# Altium schematic symbol library MSP_LM35.SchLib: 13 symbols
Pins are listed as number, name and electrical type; pins without a type are passive.

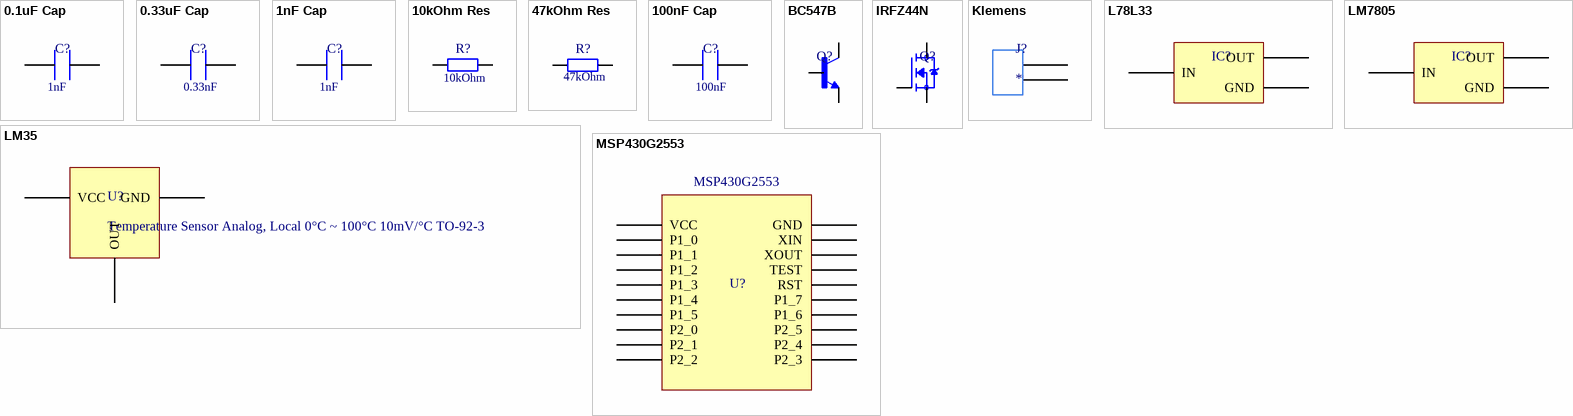
[diagram p0: symbols 0.1uF Cap to MSP430G2553]

## 0.1uF Cap
designator C?  (value not drawn)
footprint Capacitor
footprint Capacitor
pins: 0, 1
text: 1nF

## 0.33uF Cap
designator C?  (value not drawn)
footprint Capacitor
footprint Capacitor
pins: 0, 1
text: 0.33nF

## 1nF Cap
designator C?  (value not drawn)
footprint Capacitor
footprint Capacitor
pins: 0, 1
text: 1nF

## 10kOhm Res
designator R?  (value not drawn)
footprint Res
pins: 1, 2
text: 10kOhm

## 47kOhm Res
designator R?  (value not drawn)
footprint Res
pins: 1, 2
text: 47kOhm

## 100nF Cap
designator C?  (value not drawn)
footprint Capacitor
footprint Capacitor
pins: 0, 1
text: 100nF

## BC547B
designator Q?, comment Trans GP BJT NPN 45V 0.1A 500mW Automotive 3-Pin TO-92 Ammo  (value not drawn)
Manufacturer: ON Semiconductor / Fairchild; Manufacturer Part Number: BC547B; Collector Emitter Saturation Voltage: 300mV; Max Collector Current: 100mA; Transition Frequency: 300MHz; Collector-emitter Voltage-Max: 600mV; hFE Min: 200; Collector Base Voltage (VCBO): 50V; Emitter Base Voltage (VEBO): 6V; Gain Bandwidth Product: 100MHz; Voltage: 40V; Supplier 1: Farnell; RoHS: Yes; Description: Trans GP BJT NPN 45V 0.1A 500mW Automotive 3-Pin TO-92 Ammo; Category: BJTs; Stock 1: 265589; Pricing 1: 5=0,442, 10=0,327, 100=0,188, 500=0,127, 1000=0,078, 5000=0,0764 (EUR); Mount: Through Hole; Case/Package: TO-92-3; Number of Pins: 3; Weight: 0.007055oz; Contact Plating: Copper,Tin,Silver; Min Operating Temperature: -65°C; Max Operating Temperature: 150°C; Packaging: Bulk; Polarity: NPN; Max Power Dissipation: 500mW; Collector Emitter Voltage (VCEO): 45V; Voltage Rating (DC): 45V; Current Rating: 100mA; Collector Emitter Breakdown Voltage: 45V; Series: -; Package Quantity: 5000; Max Frequency: 300MHz; Max Breakdown Voltage: 45V; Length: 4.58mm; Width: 3.86mm; Height: 4.58mm; RoHS Compliant: Yes; Lead Free: Lead Free; Reach SVHC Compliant: No; ComponentLink1URL: https://datasheet.ciiva.com/17011/bc547-17011404.pdf?src-supplier=Future+Electronics; ComponentLink1Description: https://datasheet.ciiva.com/17011/bc547-17011404.pdf?src-supplier=Future+Electronics; ComponentLink2URL: https://datasheet.ciiva.com/985/bc546-547-548rev5-985523.pdf?src-supplier=Digi-Key; ComponentLink2Description: https://datasheet.ciiva.com/985/bc546-547-548rev5-985523.pdf?src-supplier=Digi-Key; ComponentLink3URL: https://datasheet.ciiva.com/972/bc546-972262.pdf?src-supplier=Digi-Key; ComponentLink3Description: https://datasheet.ciiva.com/972/bc546-972262.pdf?src-supplier=Digi-Key; ComponentLink4URL: https://datasheet.ciiva.com/1195/1868820-1195464.pdf?src-supplier=Element14; ComponentLink4Description: https://datasheet.ciiva.com/1195/1868820-1195464.pdf?src-supplier=Element14; ComponentLink5URL: https://datasheet.ciiva.com/11197/bc550-11197769.pdf?src-supplier=Avnet; ComponentLink5Description: https://datasheet.ciiva.com/11197/bc550-11197769.pdf?src-supplier=Avnet; Supplier Part Number 1: 1017673
footprint BC547
pins: 1 C, 2 B, 3 E

## IRFZ44N
designator Q?, comment MOSFET, Power; N-Ch; VDSS 55V; RDS(ON) 17.5 Milliohms; ID 49A; TO-220AB; PD 94W; -55deg  (value not drawn)
Manufacturer: International Rectifier; Manufacturer Part Number: IRFZ44N; Gate to Source Voltage (Vgs): 20V; Turn-Off Delay Time: 85ns; Turn-On Delay Time: 19ns; Rise Time: 185ns; Fall Time: 165ns; Supplier 1: Rs; RoHS: No; Description: MOSFET, Power; N-Ch; VDSS 55V; RDS(ON) 17.5 Milliohms; ID 49A; TO-220AB; PD 94W; -55deg; Mount: Through Hole; Number of Pins: 3; Min Operating Temperature: -55°C; Max Operating Temperature: 175°C; Continuous Drain Current (ID): 49A; RoHS Compliant: No; Supplier Part Number 1: 3713894
footprint IRFZ44N
pins: 1 G, 2 D, 3 S

## Klemens
designator J?
footprint Klemens
pins: 1, 2

## L78L33
designator IC?, comment L78L Series 100 mA 3.3 V Positive Voltage Regulator Through Hole - TO-92  (value not drawn)
Manufacturer: STMicroelectronics; Manufacturer Part Number: L78L33ACZ; Number of Outputs: 1; Output Voltage: 3.3V; Quiescent Current: 6mA; Max Input Voltage: 30V; Output Current: 100mA; Output Type: Fixed; Min Input Voltage: 5.3V; Dropout Voltage: 1.7V; Accuracy: 4%; Power Supply Rejection Ratio (PSRR): 49dB; Supplier 1: Mouser; RoHS: Yes; Description: L78L Series 100 mA 3.3 V Positive Voltage Regulator Through Hole - TO-92; Category: Voltage Regulators - Linear; Stock 1: 19573; Pricing 1: 1=0,54, 10=0,401, 50=0,401, 100=0,271, 1000=0,168, 10000=0,142 (USD); Mount: Through Hole; Case/Package: TO-92; Number of Pins: 3; Min Operating Temperature: 0°C; Max Operating Temperature: 125°C; Packaging: Bulk; Package Quantity: 2500; Polarity: Positive; Series: -; Max Output Current: 100mA; Number of Regulators: 1; Min Output Voltage: 3.3V; Nominal Output Voltage: 3.3V; Output Configuration: Positive; Max Supply Current: 6mA; Length: 4.95mm; Width: 3.94mm; Height: 4.95mm; RoHS Compliant: Yes; Lead Free: Lead Free; Reach SVHC Compliant: No; ComponentLink1URL: https://datasheet.ciiva.com/2043/cd00000446-2043681.pdf?src-supplier=Digi-Key; ComponentLink1Description: https://datasheet.ciiva.com/2043/cd00000446-2043681.pdf?src-supplier=Digi-Key; ComponentLink2URL: https://datasheet.ciiva.com/1511/1868798-1511961.pdf?src-supplier=Element14; ComponentLink2Description: https://datasheet.ciiva.com/1511/1868798-1511961.pdf?src-supplier=Element14; ComponentLink3URL: https://datasheet.ciiva.com/16425/cd00000446-16425913.pdf?src-supplier=Future+Electronics; ComponentLink3Description: https://datasheet.ciiva.com/16425/cd00000446-16425913.pdf?src-supplier=Future+Electronics; ComponentLink4URL: https://datasheet.ciiva.com/4882/cd00000446-4882938.pdf?src-supplier=Mouser; ComponentLink4Description: https://datasheet.ciiva.com/4882/cd00000446-4882938.pdf?src-supplier=Mouser; Supplier Part Number 1: 511-L78L33ACZ
footprint L78L33
pins: 1 OUT, 2 GND, 3 IN

## LM35
designator U?, comment Temperature Sensor Analog, Local 0°C ~ 100°C 10mV/°C TO-92-3
Manufacturer: TI National Semiconductor; Manufacturer Part Number: LM35DZ/NOPB; Min Supply Voltage: 4V; Max Supply Voltage: 30V; Quiescent Current: 56uA; Output Type: Voltage,Analog Voltage,Analog; Supplier 1: Digi-Key; RoHS: Yes; Description: Temperature Sensor Analog, Local 0°C ~ 100°C 10mV/°C TO-92-3; Category: Integrated Circuits (ICs); Pricing 1: 1=2,52, 5=2,382, 10=2,042, 25=1,6336, 50=1,4976, 100=1,3615, 500=1,1913, 1000=1,05515, 5000=0,98707 (USD); Mount: Through Hole; Case/Package: TO-92; Number of Pins: 3; Min Operating Temperature: -40°C; Max Operating Temperature: 110°C; Packaging: Bulk; Series: -; Interface: Analog; Output: ANALOG; Length: 5.2mm; Width: 4.19mm; Height: 5.2mm; Lead Free: Lead Free; RoHS Compliant: Yes; Reach SVHC Compliant: No; Supplier Part Number 1: LM35DZ/NOPB-ND
footprint LM35
pins: 1 VCC, 2 OUT, 3 GND

## LM7805
designator IC?, comment LM78XX Series 5 V Fixed Output 1 A 3-Terminal LDO Voltage Regulator - TO-220  (value not drawn)
Manufacturer: ON Semiconductor / Fairchild; Manufacturer Part Number: LM7805CT; Quiescent Current: 8mA; Output Current: 1A; Output Voltage: 5V; Dropout Voltage: 2V; Max Input Voltage: 35V; Number of Outputs: 1; Polarity: Positive; Min Input Voltage: 10V; Accuracy: 4%; Max Output Current: 2.2A; Max Output Voltage: 5.2V; Supplier 1: Avnet; RoHS: Yes; Description: LM78XX Series 5 V Fixed Output 1 A 3-Terminal LDO Voltage Regulator - TO-220; Category: Voltage Regulators - Linear; Stock 1: 120242; Pricing 1: 207=1,4208, 210=1,3824, 420=1,344, 1100=1,3056, 2100=1,2672, 11000=1,2288, 21000=1,1904 (USD); Mount: Through Hole; Case/Package: TO-220; Number of Pins: 3; Weight: 1.214g; Min Operating Temperature: -40°C; Max Operating Temperature: 125°C; Packaging: Rail/Tube; Output Type: Fixed; Series: -; Number of Regulators: 1; Package Quantity: 50; Min Output Voltage: 5V; Current Rating: 1A; Nominal Output Voltage: 5V; Length: 10.67mm; Width: 4.83mm; Height: 9.4mm; RoHS Compliant: Yes; Lead Free: Lead Free; Reach SVHC Compliant: No; ComponentLink1URL: https://datasheet.ciiva.com/19456/786138-19456361.pdf?src-supplier=Jameco; ComponentLink1Description: https://datasheet.ciiva.com/19456/786138-19456361.pdf?src-supplier=Jameco; ComponentLink2URL: https://datasheet.ciiva.com/1512/1855686-1512105.pdf?src-supplier=Element14; ComponentLink2Description: https://datasheet.ciiva.com/1512/1855686-1512105.pdf?src-supplier=Element14; ComponentLink3URL: https://datasheet.ciiva.com/1512/1855686-1512106.pdf?src-supplier=Element14; ComponentLink3Description: https://datasheet.ciiva.com/1512/1855686-1512106.pdf?src-supplier=Element14; ComponentLink4URL: https://datasheet.ciiva.com/1511/1855686-1511835.pdf?src-supplier=Element14; ComponentLink4Description: https://datasheet.ciiva.com/1511/1855686-1511835.pdf?src-supplier=Element14; ComponentLink5URL: https://datasheet.ciiva.com/8239/lm7812-8239478.pdf?src-supplier=Avnet; ComponentLink5Description: https://datasheet.ciiva.com/8239/lm7812-8239478.pdf?src-supplier=Avnet; ComponentLink6URL: https://datasheet.ciiva.com/17332/lm7805-17332792.pdf?src-supplier=Future+Electronics; ComponentLink6Description: https://datasheet.ciiva.com/17332/lm7805-17332792.pdf?src-supplier=Future+Electronics; ComponentLink7URL: https://datasheet.ciiva.com/2039/lm7805-2039365.pdf?src-supplier=Digi-Key; ComponentLink7Description: https://datasheet.ciiva.com/2039/lm7805-2039365.pdf?src-supplier=Digi-Key; ComponentLink8URL: https://datasheet.ciiva.com/48694/001253095-da-01-en-ic-reg-ldo-5v-1a-lm7805ct-to-220-3-fsc-48694790.pdf?src-supplier=Conrad; ComponentLink8Description: https://datasheet.ciiva.com/48694/001253095-da-01-en-ic-reg-ldo-5v-1a-lm7805ct-to-220-3-fsc-48694790.pdf?src-supplier=Conrad; Supplier Part Number 1: LM7805CT
footprint LM7805
pins: 1 IN, 2 GND, 3 OUT

## MSP430G2553
designator U?, comment 16 MHz MCU with 16KB Flash, 512B SRAM, comparator, UART/SPI/I2C, timer 20-PDIP -40 to 85  (value not drawn)
Manufacturer: Texas Instruments; Manufacturer Part Number: MSP430G2553IN20; Core Architecture: MSP430; Interface: I2C,SPI,IrDA,UART,USART,SCI,LIN; Number of I/Os: 16; Oscillator Type: Internal; Peripherals: Brown-out Detect/Reset,POR,PWM,WDT,DMA; Data Bus Width: 16b; Frequency: 16MHz; Number of A/D Converters: 8; Max Supply Voltage: 3.6V; Min Supply Voltage: 1.8V; Number of Timers/Counters: 2; Watchdog Timer: Yes; Number of GPIO: 24; Number of UART Channels: 1; Supplier 1: Mouser; RoHS: Yes; Description: 16 MHz MCU with 16KB Flash, 512B SRAM, comparator, UART/SPI/I2C, timer 20-PDIP -40 to 85; Category: Microcontrollers; Stock 1: 886; Pricing 1: 1=3,45, 10=3,1, 50=3,1, 100=2,54, 1000=2,4, 10000=2,4 (USD); Case/Package: N; Number of Pins: 20; Min Operating Temperature: -40°C; Max Operating Temperature: 85°C; Series: MSP430G2xx; Packaging: Rail/Tube; Package Quantity: 20; Memory Type: FLASH; Memory Size: 16KB; RAM Size: 512B; Number of ADC Channels: 8; Number of Programmable I/O: 16; Max Frequency: 16MHz; Number of SPI Channels: 2; Number of I2C Channels: 1; Length: 24.33mm; Width: 6.35mm; Height: 5.08mm; Radiation Hardening: No; Lead Free: Lead Free; Reach SVHC Compliant: No; RoHS Compliant: Yes; ComponentLink1URL: https://datasheet.ciiva.com/28657/1695238-28657971.pdf?src-supplier=Element14; ComponentLink1Description: https://datasheet.ciiva.com/28657/1695238-28657971.pdf?src-supplier=Element14; Supplier Part Number 1: 595-MSP430G2553IN20
footprint MSP430G2553
pins: 0 VCC, 1 P1_0, 2 P1_1, 3 P1_2, 4 P1_3, 5 P1_4, 6 P1_5, 7 P2_0, 8 P2_1, 9 P2_2, 10 P2_3, 11 P2_4, 12 P2_5, 13 P1_6, 14 P1_7, 15 RST, 16 TEST, 17 XOUT, 18 XIN, 19 GND